# EAGLE library part AI-THINKER_A7 (library AI-Thinker_A7)
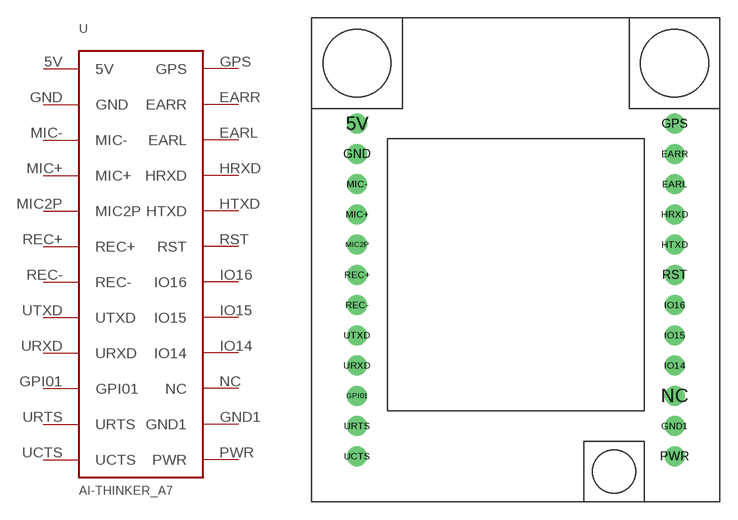
[diagram p0: symbol with the pads of AI-THINKER_A7_PAC; footprint AI-THINKER_A7_PAC]

Designator prefix -

## AI-THINKER_A7  [AI-THINKER_A7_PAC]
5V  5V
EARL  EARL
EARR  EARR
GND  GND
GND1  GND1
GPI01  GPI01
GPS  GPS
HRXD  HRXD
HTXD  HTXD
IO14  IO14
IO15  IO15
IO16  IO16
MIC2P  MIC2P
MIC+  MIC+
MIC-  MIC-
NC  NC
PWR  PWR
REC+  REC+
REC-  REC-
RST  RST
UCTS  UCTS
URTS  URTS
URXD  URXD
UTXD  UTXD

## Footprint AI-THINKER_A7_PAC (pad centres in mm)
drill 0.9 pad 1.676: 5V 0,0; EARL 26.67,-5.08; EARR 26.67,-2.54; GND 0,-2.54; GND1 26.67,-25.4; GPI01 0,-22.86; GPS 26.67,0; HRXD 26.67,-7.62; HTXD 26.67,-10.16; IO14 26.67,-20.32; IO15 26.67,-17.78; IO16 26.67,-15.24; MIC2P 0,-10.16; MIC+ 0,-7.62; MIC- 0,-5.08; NC 26.67,-22.86; PWR 26.67,-27.94; REC+ 0,-12.7; REC- 0,-15.24; RST 26.67,-12.7; UCTS 0,-27.94; URTS 0,-25.4; URXD 0,-20.32; UTXD 0,-17.78